# EAGLE library part MCP1725-3302E_SN (library MCP1725-3302E_SN)
500mA CMOS LDO,Vo=3.3V,,MCP1725-3302E/SN Source: Datasheet <http://ww1.microchip.com/downloads/en/DeviceDoc/22026b.pdf>
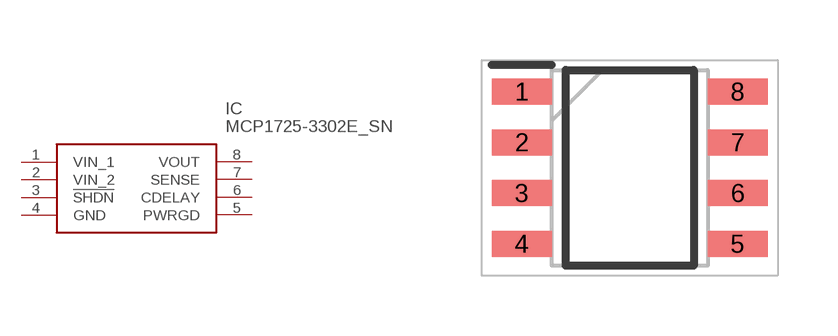
[diagram p0: symbol with the pads of SOIC127P600X175-8N; footprint SOIC127P600X175-8N]

Designator prefix IC

## MCP1725-3302E_SN (Arrow_Part_Number: MCP1725-3302E/SN; Arrow_Price-Stock: https://www.arrow.com/en/products/mcp1725-3302esn/microchip-technology; Description: 500mA CMOS LDO,Vo=3.3V,,MCP1725-3302E/SN; Height: 1.75mm; Manufacturer_Name: Microchip; Manufacturer_Part_Number: MCP1725-3302E/SN; Mouser_Part_Number: 579-MCP1725-3302E/SN; Mouser_Price-Stock: https://www.mouser.co.uk/ProductDetail/Microchip-Technology/MCP1725-3302E-SN?qs=usxtMOJb1RwUUJ1wgWMM%2Fw%3D%3D)  [SOIC127P600X175-8N]
1  VIN_1
2  VIN_2
3  !SHDN
4  GND
5  PWRGD
6  CDELAY
7  SENSE
8  VOUT

## Footprint SOIC127P600X175-8N (pad centres in mm)
MCP1725-3302E/SN-1
smd 1.5 x 0.65: 1 -2.7,1.905; 2 -2.7,0.635; 3 -2.7,-0.635; 4 -2.7,-1.905; 5 2.7,-1.905; 6 2.7,-0.635; 7 2.7,0.635; 8 2.7,1.905